# Altium footprint library PCB - CONNECTOR -  Staeubli 66904021.PCBLIB: 1 footprints
Each footprint in its own frame and in the unit in brackets; x right, y up, seen from the top. Pads: shape width x height; smd on the part's side, far side on the other; paste and mask are expansions set on the pad; w line width, h text height; cw(c..) or ccw(c..) is an arc to the next point about the centre after c.
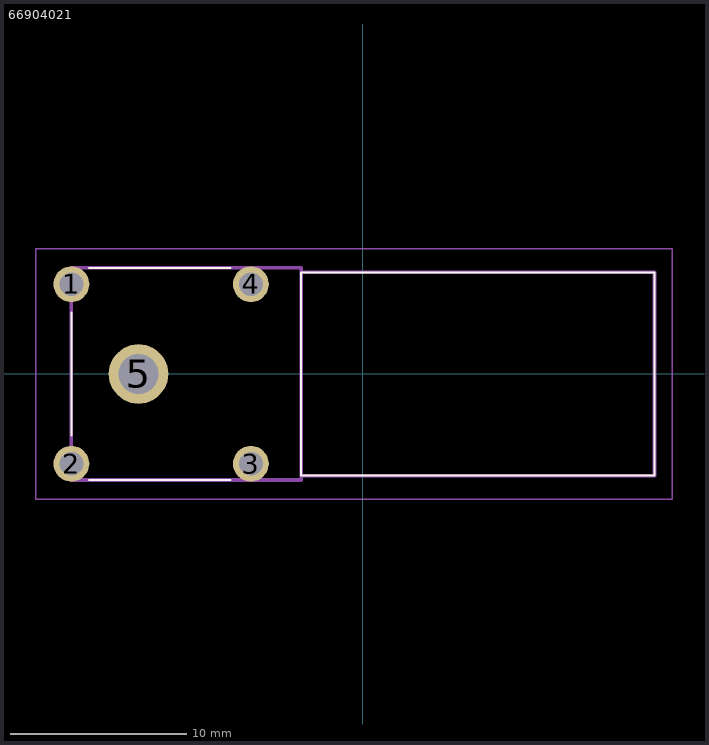
[diagram p0: the footprint, top view; thin cyan lines are the x and y axes]

## 66904021 [mm]
pads (5):
  round 2.025 hole 1.35: 1(-16.5,5.08) 2(-16.5,-5.08) 3(-6.34,-5.08) 4(-6.34,5.08)
  round 3.375 hole 2.25: 5(-12.7,0)
Top Overlay:
  lines w0.1: -16.5,-3.5 -16.5,3.5 ; -15.5,-6 -7.5,-6 ; -15.5,6 -7.5,6 ; -3.5,-5.75 -3.5,5.75 16.5,5.75 16.5,-5.75 -3.5,-5.75
Mechanical 13:
  lines w0.2: -16.5,-6 -16.5,6 -3.5,6 -3.5,-6 -16.5,-6 ; -3.5,-5.75 -3.5,5.75 16.5,5.75 16.5,-5.75 -3.5,-5.75
Mechanical 15:
  lines w0.1: -18.512,-7.093 -18.512,7.092 17.5,7.092 17.5,-7.093 -18.512,-7.093
3D body "66.9040-21.stp": height 11.1, standoff -5, extent -17.07,-6 16.5,6